# EAGLE library part ESP32-C3F (library bear_altimeters_lib)
ESP32-C3F Module Check availability <https://pricing.snapeda.com/parts/ESP32-C3F/AI-Thinker/view-part?ref=eda>
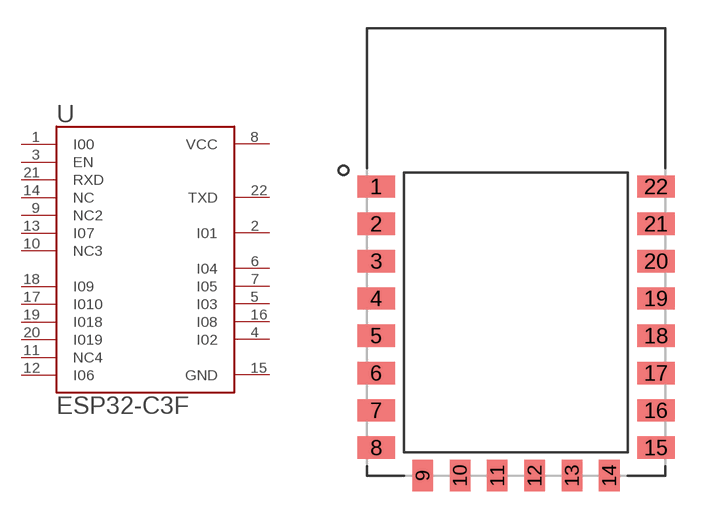
[diagram p1: symbol with the pads of ESP32-C3F; footprint ESP32-C3F]

Designator prefix U

## ESP32-C3F (AVAILABILITY: Not in stock; DESCRIPTION: This WiFi module has a 32-bit MCU micro and clock speeds supporting 80 MHz or 160 MHz. Supports the RTOS and integrated Wi-Fi MAC/BB/RF/PA/LNA, and has an on-board antenna.; MF: AI-Thinker; MP: ESP8266-12E/ESP-12E; PACKAGE: None; PRICE: None)  [ESP32-C3F]
1  I00  in
2  I01  pas
3  EN  in
4  I02
5  I03
6  I04
7  I05
8  VCC  pwr
9  NC2  nc
10  NC3  nc
11  NC4  nc
12  I06
13  I07
14  NC  nc
15  GND  pwr
16  I08
17  I010
18  I09
19  I018
20  I019
21  RXD  in
22  TXD  out

## Footprint ESP32-C3F (pad centres in mm)
smd 2 x 1.2: 1 -7.5,7; 2 -7.5,5; 3 -7.5,3; 4 -7.5,1; 5 -7.5,-1; 6 -7.5,-3; 7 -7.5,-5; 8 -7.5,-7; 15 7.5,-7; 16 7.5,-5; 17 7.5,-3; 18 7.5,-1; 19 7.5,1; 20 7.5,3; 21 7.5,5; 22 7.5,7
smd 1.1 x 1.7: 9 -5,-8.5; 10 -3,-8.5; 11 -1,-8.5; 12 1,-8.5; 13 3,-8.5; 14 5,-8.5